# Altium schematic symbol library ADUM5401ARWZ-RL.SchLib: 1 symbol
Pins are listed as number, name and electrical type; pins without a type are passive.

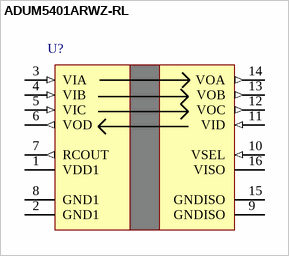
[diagram p0: symbol ADUM5401ARWZ-RL]

## ADUM5401ARWZ-RL
designator U?
pins: 1 VDD1 (power), 2 GND1 (power), 3 VIA (in), 4 VIB (in), 5 VIC (in), 6 VOD (out), 7 RCOUT (out), 8 GND1 (power), 9 GNDISO (power), 10 VSEL (in), 11 VID (in), 12 VOC (out), 13 VOB (out), 14 VOA (out), 15 GNDISO (power), 16 VISO (power)